# Altium schematic symbol library goldpins.SchLib: 1 symbol
Pins are listed as number, name and electrical type; pins without a type are passive.

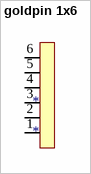
[diagram p0: symbol goldpin 1x6]

## goldpin 1x6
designator *
footprint goldpin 1x6
pins: 1 2, 2 3, 3 4, 4 5, 5 6, 6 7